# Altium footprint library RCLAMP3521ZATFT.PcbLib: 1 footprints
Each footprint in its own frame and in the unit in brackets; x right, y up, seen from the top. Pads: shape width x height; smd on the part's side, far side on the other; paste and mask are expansions set on the pad; w line width, h text height; cw(c..) or ccw(c..) is an arc to the next point about the centre after c.
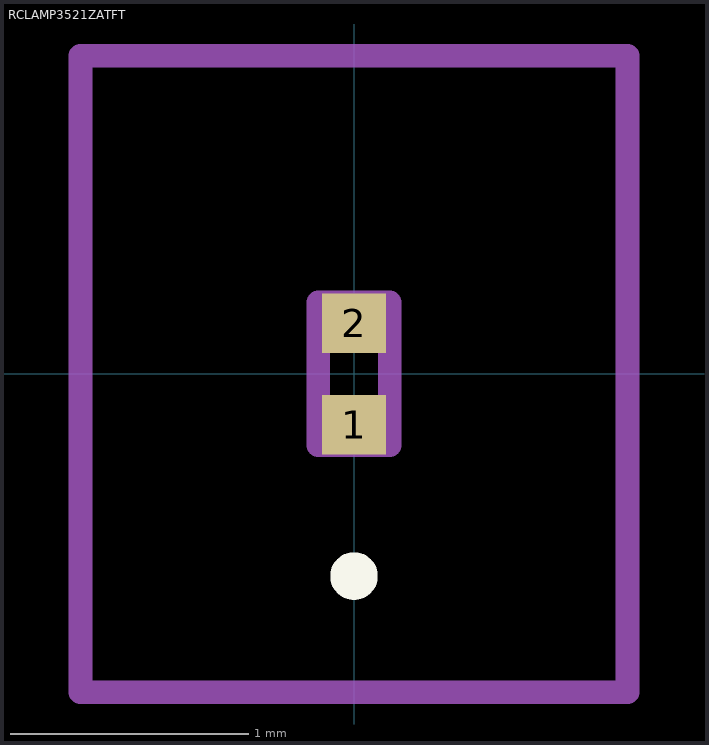
[diagram p0: the footprint, top view; thin cyan lines are the x and y axes]

## RCLAMP3521ZATFT [mm]
pads (2):
  rect 0.27x0.25 smd: 1(0,-0.213) 2(0,0.212)
Top Overlay:
  lines w0.1: 0,-0.9 cw(c0,-0.85) 0,-0.8 ; 0,-0.9 0,-0.9 ; 0,-0.9 ccw(c0,-0.85) 0,-0.8 ; 0,-0.8 0,-0.8
Mechanical 15:
  lines w0.1: -0.15,-0.3 0.15,-0.3 0.15,0.3 -0.15,0.3 -0.15,-0.3
Mechanical 20:
  lines w0.1: -1.15,-1.338 1.15,-1.338 1.15,1.337 -1.15,1.337 -1.15,-1.338